# Altium schematic symbol library 2-1445054-2.SchLib: 1 symbol
Pins are listed as number, name and electrical type; pins without a type are passive.

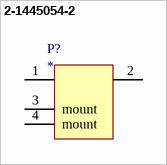
[diagram p0: symbol 2-1445054-2]

## 2-1445054-2
designator P?
pins: 1 (power), 2 (power), 3 mount (power), 4 mount (power)